# EAGLE library part 050-6 (library zz-upenn)
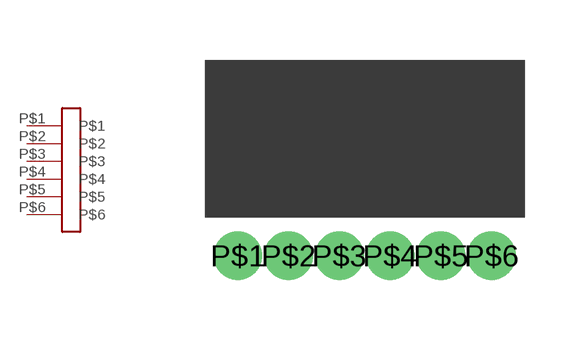
[diagram p8: symbol with the pads of 050-6; footprint 050-6]

Designator prefix -

## 050-6  [050-6]
P$1  P$1
P$2  P$2
P$3  P$3
P$4  P$4
P$5  P$5
P$6  P$6

## Footprint 050-6 (pad centres in mm)
drill 0.711 pad 1.016: P$1 0,0; P$2 1.27,0; P$3 2.54,0; P$4 3.81,0; P$5 5.08,0; P$6 6.35,0